# Altium integrated library mech-connector_conflict-20180529-122026.IntLib: 29 symbols
Pins are listed as number, name and electrical type; pins without a type are passive.

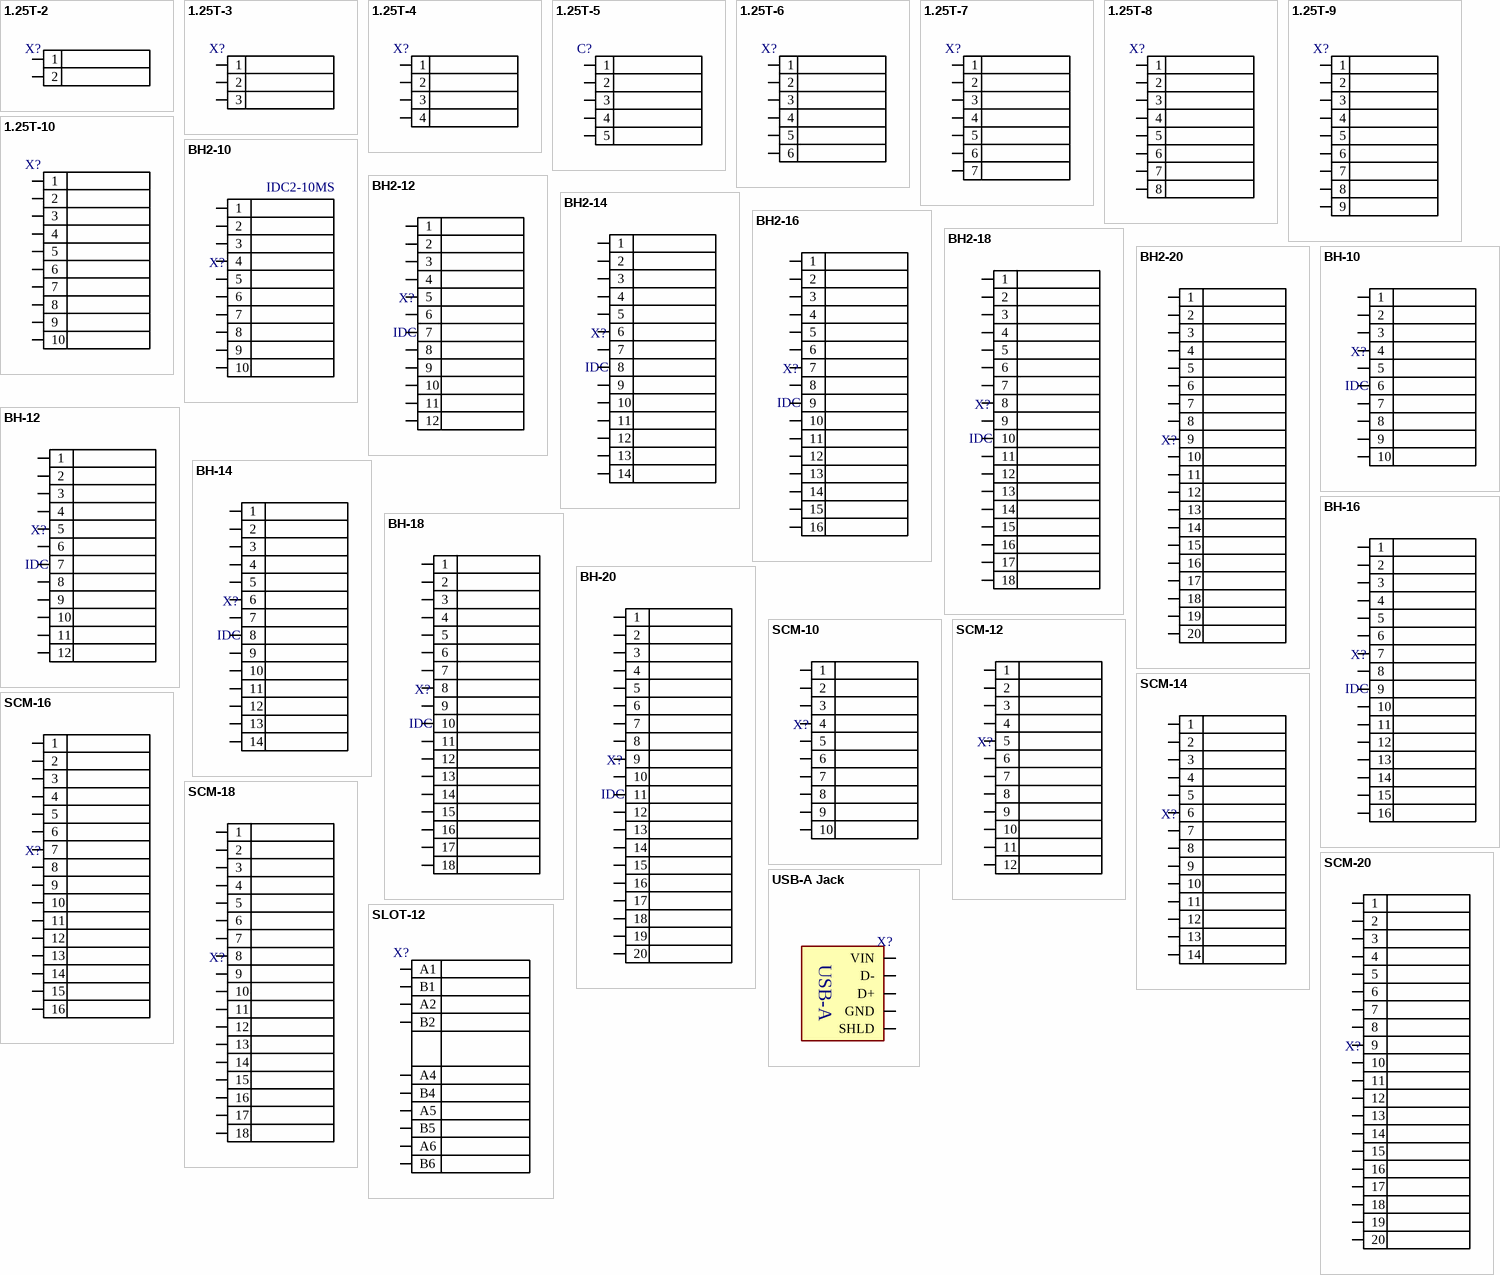
[diagram p0: symbols 1.25T-2 to USB-A Jack]

## 1.25T-2
designator X?  (value not drawn)
Connector 1.25T; Gap: 1.25 mm; Name: *; LatestRevisionDate: 11-01-2018
footprint CON-1.25T-2
pins: 1, 2

## 1.25T-3
designator X?  (value not drawn)
Connector 1.25T; Gap: 1.25 mm; Name: *; LatestRevisionDate: 11-01-2018
footprint CON-1.25T-3
pins: 1, 2, 3

## 1.25T-4
designator X?  (value not drawn)
Connector 1.25T; Gap: 1.25 mm; Name: *; LatestRevisionDate: 11-01-2018
footprint CON-1.25T-4
pins: 1, 2, 3, 4

## 1.25T-5
designator C?  (value not drawn)
Connector 1.25T; Gap: 1.25 mm; Name: *; LatestRevisionDate: 11-01-2018
footprint CON-1.25T-5
pins: 1, 2, 3, 4, 5

## 1.25T-6
designator X?  (value not drawn)
Connector 1.25T; Gap: 1.25 mm; Name: *; LatestRevisionDate: 11-01-2018
footprint CON-1.25T-6
pins: 1, 2, 3, 4, 5, 6

## 1.25T-7
designator X?  (value not drawn)
Connector 1.25T; Gap: 1.25 mm; Name: *; LatestRevisionDate: 11-01-2018
footprint CON-1.25T-7
pins: 1, 2, 3, 4, 5, 6, 7

## 1.25T-8
designator X?  (value not drawn)
Connector 1.25T; Gap: 1.25 mm; Name: *; LatestRevisionDate: 11-01-2018
footprint CON-1.25T-8
pins: 1, 2, 3, 4, 5, 6, 7, 8

## 1.25T-9
designator X?  (value not drawn)
Connector 1.25T; Gap: 1.25 mm; Name: *; LatestRevisionDate: 11-01-2018
footprint CON-1.25T-9
pins: 1, 2, 3, 4, 5, 6, 7, 8, 9

## 1.25T-10
designator X?  (value not drawn)
Connector 1.25T; Gap: 1.25 mm; Name: *; LatestRevisionDate: 11-01-2018
footprint CON-1.25T-10
pins: 1, 2, 3, 4, 5, 6, 7, 8, 9, 10

## BH2-10
designator X?, comment IDC2-10MS
BH2-10/IDC2-10MS; Gap: 2.0 mm; LatestRevisionDate: 11-01-2018; Name: IDC2-10MS
footprint BH2-10 (IDC2-XXMS Connector)
pins: 1, 2, 3, 4, 5, 6, 7, 8, 9, 10

## BH2-12
designator X?, comment IDC2-12MS
BH2-12/IDC2-12MS; Gap: 2.0 mm; LatestRevisionDate: 11-01-2018; Name: IDC2-12MS
footprint BH2-12 (IDC2-XXMS Connector)
pins: 1, 2, 3, 4, 5, 6, 7, 8, 9, 10, 11, 12

## BH2-14
designator X?, comment IDC2-14MS
BH2-14/IDC2-14MS; Gap: 2.0 mm; LatestRevisionDate: 11-01-2018; Name: IDC2-14MS
footprint BH2-14 (IDC2-XXMS Connector)
pins: 1, 2, 3, 4, 5, 6, 7, 8, 9, 10, 11, 12, 13, 14

## BH2-16
designator X?, comment IDC2-16MS
BH2-16/IDC2-16MS; Gap: 2.0 mm; LatestRevisionDate: 11-01-2018; Name: IDC2-16MS
footprint BH2-16 (IDC2-XXMS Connector)
pins: 1, 2, 3, 4, 5, 6, 7, 8, 9, 10, 11, 12, 13, 14, 15, 16

## BH2-18
designator X?, comment IDC2-18MS
BH-18/IDC2-18MS; Gap: 2.0 mm; LatestRevisionDate: 11-01-2018; Name: IDC2-18MS
footprint BH2-18 (IDC2-XXMS Connector)
pins: 1, 2, 3, 4, 5, 6, 7, 8, 9, 10, 11, 12, 13, 14, 15, 16, 17, 18

## BH2-20
designator X?, comment IDC2-20MS  (value not drawn)
BH2-20/IDC2-20MS; Gap: 2.0 mm; Name: IDC2-20MS; LatestRevisionDate: 11-01-2018
footprint BH2-20 (IDC2-XXMS Connector)
pins: 1, 2, 3, 4, 5, 6, 7, 8, 9, 10, 11, 12, 13, 14, 15, 16, 17, 18, 19, 20

## BH-10
designator X?, comment IDC-10MS
BH-10/IDC-10MS; Gap: 2.54 mm; LatestRevisionDate: 11-01-2018; Name: IDC-10MS
footprint BH-10
pins: 1, 2, 3, 4, 5, 6, 7, 8, 9, 10

## BH-12
designator X?, comment IDC-12MS
BH-12/IDC-12MS; Gap: 2.54 mm; LatestRevisionDate: 11-01-2018; Name: IDC-12MS
footprint BH-12
pins: 1, 2, 3, 4, 5, 6, 7, 8, 9, 10, 11, 12

## BH-14
designator X?, comment IDC-14MS
BH-14/IDC-14MS; Gap: 2.54 mm; LatestRevisionDate: 11-01-2018; Name: IDC-14MS
footprint BH-14
pins: 1, 2, 3, 4, 5, 6, 7, 8, 9, 10, 11, 12, 13, 14

## BH-16
designator X?, comment IDC-16MS
BH-16/IDC-16MS; Gap: 2.54 mm; LatestRevisionDate: 11-01-2018; Name: IDC-16MS
footprint BH-16
pins: 1, 2, 3, 4, 5, 6, 7, 8, 9, 10, 11, 12, 13, 14, 15, 16

## BH-18
designator X?, comment IDC-18MS
BH-18/IDC-18MS; Gap: 2.54 mm; LatestRevisionDate: 11-01-2018; Name: IDC-18MS
footprint BH-18
pins: 1, 2, 3, 4, 5, 6, 7, 8, 9, 10, 11, 12, 13, 14, 15, 16, 17, 18

## BH-20
designator X?, comment IDC-20MS
BH-20/IDC-20MS; Gap: 2.54 mm; LatestRevisionDate: 11-01-2018; Name: IDC-20MS
footprint BH-20
pins: 1, 2, 3, 4, 5, 6, 7, 8, 9, 10, 11, 12, 13, 14, 15, 16, 17, 18, 19, 20

## SCM-10
designator X?  (value not drawn)
Connector SCM; Gap: 2.0 mm; Name: *; LatestRevisionDate: 11-01-2018
footprint SCM-10
pins: 1, 2, 3, 4, 5, 6, 7, 8, 9, 10

## SCM-12
designator X?  (value not drawn)
Connector SCM; Gap: 2.0 mm; Name: *; LatestRevisionDate: 11-01-2018
footprint SCM-12
pins: 1, 2, 3, 4, 5, 6, 7, 8, 9, 10, 11, 12

## SCM-14
designator X?  (value not drawn)
Connector SCM; Gap: 2.0 mm; Name: *; LatestRevisionDate: 11-01-2018
footprint SCM-14
pins: 1, 2, 3, 4, 5, 6, 7, 8, 9, 10, 11, 12, 13, 14

## SCM-16
designator X?  (value not drawn)
Connector SCM; Gap: 2.0 mm; Name: *; LatestRevisionDate: 11-01-2018
footprint SCM-16
pins: 1, 2, 3, 4, 5, 6, 7, 8, 9, 10, 11, 12, 13, 14, 15, 16

## SCM-18
designator X?  (value not drawn)
Connector SCM; Gap: 2.0 mm; Name: *; LatestRevisionDate: 11-01-2018
footprint SCM-18
pins: 1, 2, 3, 4, 5, 6, 7, 8, 9, 10, 11, 12, 13, 14, 15, 16, 17, 18

## SCM-20
designator X?  (value not drawn)
Connector SCM; Gap: 2.0 mm; Name: *; LatestRevisionDate: 11-01-2018
footprint SCM-20
pins: 1, 2, 3, 4, 5, 6, 7, 8, 9, 10, 11, 12, 13, 14, 15, 16, 17, 18, 19, 20

## SLOT-12
designator X?  (value not drawn)
Edge slot connector; Gap: 2.54mm; Name: *; LatestRevisionDate: 11-01-2018
footprint SLOT-12-3P
pins: A1, A2, A4, A5, A6, B1, B2, B4, B5, B6

## USB-A Jack
designator X?, comment MC000991  (value not drawn)
Jack USB-A 2.0; Gap: 2 mm; Name: MC000991; LatestRevisionDate: 11-01-2018
footprint USB-A-4-RECEPT
footprint USB-A-4-RECEPT2
pins: 1 VIN, 2 D-, 3 D+, 4 GND, 5 SHLD
text: USB-A